# Altium footprint library varistor.PCBLIB: 34 footprints (part 2 of 3)
Each footprint in its own frame and in the unit in brackets; x right, y up, seen from the top. Pads: shape width x height; smd on the part's side, far side on the other; paste and mask are expansions set on the pad; w line width, h text height; cw(c..) or ccw(c..) is an arc to the next point about the centre after c.
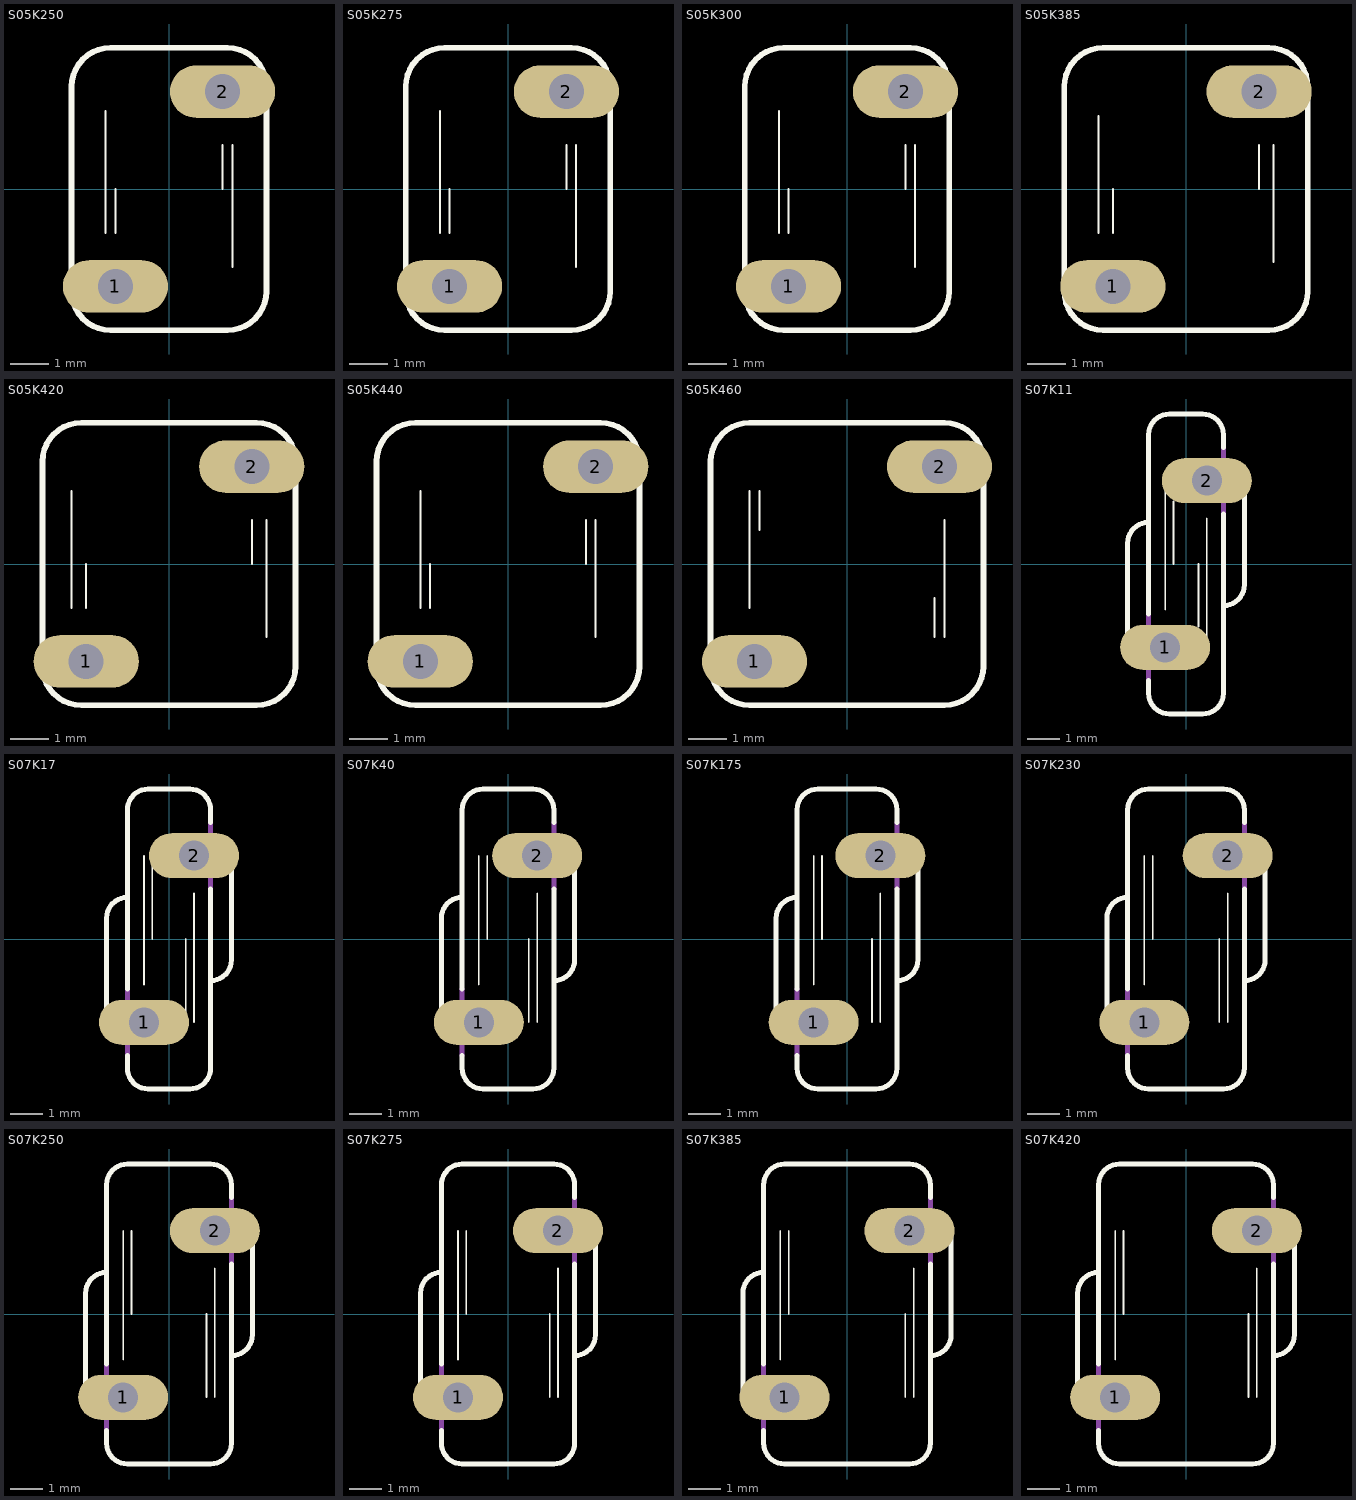
[diagram p1: the footprints below, top view; thin cyan lines are the x and y axes]

## S05K250 [mil]
pads (2):
  oval 108x54 hole 36: 1(-55,-100) 2(55,100)
Top Overlay:
  lines w2: -65,-45 -65,80 ; -55,-45 -55,0 ; 55,0 55,45 ; 65,-80 65,45
  lines w6: -100,-105 -100,105 cw(c-60,105) -60,145 60,145 cw(c60,105) 100,105 100,-105 cw(c60,-105) 60,-145 -60,-145 cw(c-60,-105) -100,-105

## S05K275 [mil]
pads (2):
  oval 108x54 hole 36: 1(-60,-100) 2(60,100)
Top Overlay:
  lines w2: -70,-45 -70,80 ; -60,-45 -60,0 ; 60,0 60,45 ; 70,-80 70,45
  lines w6: -105,-105 -105,105 cw(c-65,105) -65,145 65,145 cw(c65,105) 105,105 105,-105 cw(c65,-105) 65,-145 -65,-145 cw(c-65,-105) -105,-105

## S05K300 [mil]
pads (2):
  oval 108x54 hole 36: 1(-60,-100) 2(60,100)
Top Overlay:
  lines w2: -70,-45 -70,80 ; -60,-45 -60,0 ; 60,0 60,45 ; 70,-80 70,45
  lines w6: -105,-105 -105,105 cw(c-65,105) -65,145 65,145 cw(c65,105) 105,105 105,-105 cw(c65,-105) 65,-145 -65,-145 cw(c-65,-105) -105,-105

## S05K385 [mil]
pads (2):
  oval 108x54 hole 36: 1(-75,-100) 2(75,100)
Top Overlay:
  lines w2: -90,-45 -90,75 ; -75,-45 -75,0 ; 75,0 75,45 ; 90,-75 90,45
  lines w6: -125,-105 -125,105 cw(c-85,105) -85,145 85,145 cw(c85,105) 125,105 125,-105 cw(c85,-105) 85,-145 -85,-145 cw(c-85,-105) -125,-105

## S05K420 [mil]
pads (2):
  oval 108x54 hole 36: 1(-85,-100) 2(85,100)
Top Overlay:
  lines w2: -100,-45 -100,75 ; -85,-45 -85,0 ; 85,0 85,45 ; 100,-75 100,45
  lines w6: -130,-105 -130,105 cw(c-90,105) -90,145 90,145 cw(c90,105) 130,105 130,-105 cw(c90,-105) 90,-145 -90,-145 cw(c-90,-105) -130,-105

## S05K440 [mil]
pads (2):
  oval 108x54 hole 36: 1(-90,-100) 2(90,100)
Top Overlay:
  lines w2: -90,-45 -90,75 ; -80,-45 -80,0 ; 80,0 80,45 ; 90,-75 90,45
  lines w6: -135,-105 -135,105 cw(c-95,105) -95,145 95,145 cw(c95,105) 135,105 135,-105 cw(c95,-105) 95,-145 -95,-145 cw(c-95,-105) -135,-105

## S05K460 [mil]
pads (2):
  oval 108x54 hole 36: 1(-95,-100) 2(95,100)
Top Overlay:
  lines w2: -100,-45 -100,75 ; -90,35 -90,75 ; 90,-75 90,-35 ; 100,-75 100,45
  lines w6: -140,-105 -140,105 cw(c-100,105) -100,145 100,145 cw(c100,105) 140,105 140,-105 cw(c100,-105) 100,-145 -100,-145 cw(c-100,-105) -140,-105

## S07K11 [mil]
pads (2):
  oval 108x54 hole 36: 1(-25,-100) 2(25,100)
Top Overlay:
  lines w2: -25,-55 -25,100 ; -15,0 -15,75 ; 15,-75 15,0 ; 25,-100 25,55
  lines w6: -70,-95 -70,25 cw(c-45,25) -45,50 ; -45,-140 -45,-155 ccw(c-20,-155) -20,-180 20,-180 ccw(c20,-155) 45,-155 45,60 ; -45,-60 -45,155 cw(c-20,155) -20,180 20,180 cw(c20,155) 45,155 45,140 ; 45,-50 ccw(c45,-25) 70,-25 70,95
Mechanical 16:
  lines w6: -70,-95 ccw(c-45,-95) -45,-120 ; -45,-140 -45,-120 ; -45,-60 -45,-120 ; 45,60 45,120 ; 45,140 45,120 ; 70,95 ccw(c45,95) 45,120

## S07K17 [mil]
pads (2):
  oval 108x54 hole 36: 1(-30,-100) 2(30,100)
Top Overlay:
  lines w2: -30,-55 -30,100 ; -20,0 -20,100 ; 20,-100 20,0 ; 30,-100 30,55
  lines w6: -75,-95 -75,25 cw(c-50,25) -50,50 ; -50,-140 -50,-155 ccw(c-25,-155) -25,-180 25,-180 ccw(c25,-155) 50,-155 50,60 ; -50,-60 -50,155 cw(c-25,155) -25,180 25,180 cw(c25,155) 50,155 50,140 ; 50,-50 ccw(c50,-25) 75,-25 75,95
Mechanical 16:
  lines w6: -75,-95 ccw(c-50,-95) -50,-120 ; -50,-140 -50,-120 ; -50,-60 -50,-120 ; 50,60 50,120 ; 50,140 50,120 ; 75,95 ccw(c50,95) 50,120

## S07K40 [mil]
pads (2):
  oval 108x54 hole 36: 1(-35,-100) 2(35,100)
Top Overlay:
  lines w2: -35,-55 -35,100 ; -25,0 -25,100 ; 25,-100 25,0 ; 35,-100 35,55
  lines w6: -80,-95 -80,25 cw(c-55,25) -55,50 ; -55,-140 -55,-155 ccw(c-30,-155) -30,-180 30,-180 ccw(c30,-155) 55,-155 55,60 ; -55,-60 -55,155 cw(c-30,155) -30,180 30,180 cw(c30,155) 55,155 55,140 ; 55,-50 ccw(c55,-25) 80,-25 80,95
Mechanical 16:
  lines w6: -80,-95 ccw(c-55,-95) -55,-120 ; -55,-140 -55,-120 ; -55,-60 -55,-120 ; 55,60 55,120 ; 55,140 55,120 ; 80,95 ccw(c55,95) 55,120

## S07K175 [mil]
pads (2):
  oval 108x54 hole 36: 1(-40,-100) 2(40,100)
Top Overlay:
  lines w2: -40,-55 -40,100 ; -30,0 -30,100 ; 30,-100 30,0 ; 40,-100 40,55
  lines w6: -85,-95 -85,25 cw(c-60,25) -60,50 ; -60,-140 -60,-155 ccw(c-35,-155) -35,-180 35,-180 ccw(c35,-155) 60,-155 60,60 ; -60,-60 -60,155 cw(c-35,155) -35,180 35,180 cw(c35,155) 60,155 60,140 ; 60,-50 ccw(c60,-25) 85,-25 85,95
Mechanical 16:
  lines w6: -85,-95 ccw(c-60,-95) -60,-120 ; -60,-140 -60,-120 ; -60,-60 -60,-120 ; 60,60 60,120 ; 60,140 60,120 ; 85,95 ccw(c60,95) 60,120

## S07K230 [mil]
pads (2):
  oval 108x54 hole 36: 1(-50,-100) 2(50,100)
Top Overlay:
  lines w2: -50,-55 -50,100 ; -40,0 -40,100 ; 40,-100 40,0 ; 50,-100 50,55
  lines w6: -95,-95 -95,25 cw(c-70,25) -70,50 ; -70,-140 -70,-155 ccw(c-45,-155) -45,-180 45,-180 ccw(c45,-155) 70,-155 70,60 ; -70,-60 -70,155 cw(c-45,155) -45,180 45,180 cw(c45,155) 70,155 70,140 ; 70,-50 ccw(c70,-25) 95,-25 95,95
Mechanical 16:
  lines w6: -95,-95 ccw(c-70,-95) -70,-120 ; -70,-140 -70,-120 ; -70,-60 -70,-120 ; 70,60 70,120 ; 70,140 70,120 ; 95,95 ccw(c70,95) 70,120

## S07K250 [mil]
pads (2):
  oval 108x54 hole 36: 1(-55,-100) 2(55,100)
Top Overlay:
  lines w2: -55,-55 -55,100 ; -45,0 -45,100 ; 45,-100 45,0 ; 55,-100 55,55
  lines w6: -100,-95 -100,25 cw(c-75,25) -75,50 ; -75,-140 -75,-155 ccw(c-50,-155) -50,-180 50,-180 ccw(c50,-155) 75,-155 75,60 ; -75,-60 -75,155 cw(c-50,155) -50,180 50,180 cw(c50,155) 75,155 75,140 ; 75,-50 ccw(c75,-25) 100,-25 100,95
Mechanical 16:
  lines w6: -100,-95 ccw(c-75,-95) -75,-120 ; -75,-140 -75,-120 ; -75,-60 -75,-120 ; 75,60 75,120 ; 75,140 75,120 ; 100,95 ccw(c75,95) 75,120

## S07K275 [mil]
pads (2):
  oval 108x54 hole 36: 1(-60,-100) 2(60,100)
Top Overlay:
  lines w2: -60,-55 -60,100 ; -50,0 -50,100 ; 50,-100 50,0 ; 60,-100 60,55
  lines w6: -105,-95 -105,25 cw(c-80,25) -80,50 ; -80,-140 -80,-155 ccw(c-55,-155) -55,-180 55,-180 ccw(c55,-155) 80,-155 80,60 ; -80,-60 -80,155 cw(c-55,155) -55,180 55,180 cw(c55,155) 80,155 80,140 ; 80,-50 ccw(c80,-25) 105,-25 105,95
Mechanical 16:
  lines w6: -105,-95 ccw(c-80,-95) -80,-120 ; -80,-140 -80,-120 ; -80,-60 -80,-120 ; 80,60 80,120 ; 80,140 80,120 ; 105,95 ccw(c80,95) 80,120

## S07K385 [mil]
pads (2):
  oval 108x54 hole 36: 1(-75,-100) 2(75,100)
Top Overlay:
  lines w2: -80,-55 -80,100 ; -70,0 -70,100 ; 70,-100 70,0 ; 80,-100 80,55
  lines w6: -125,-95 -125,25 cw(c-100,25) -100,50 ; -100,-140 -100,-155 ccw(c-75,-155) -75,-180 75,-180 ccw(c75,-155) 100,-155 100,60 ; -100,-60 -100,155 cw(c-75,155) -75,180 75,180 cw(c75,155) 100,155 100,140 ; 100,-50 ccw(c100,-25) 125,-25 125,95
Mechanical 16:
  lines w6: -125,-95 ccw(c-100,-95) -100,-120 ; -100,-140 -100,-120 ; -100,-60 -100,-120 ; 100,60 100,120 ; 100,140 100,120 ; 125,95 ccw(c100,95) 100,120

## S07K420 [mil]
pads (2):
  oval 108x54 hole 36: 1(-85,-100) 2(85,100)
Top Overlay:
  lines w2: -85,-55 -85,100 ; -75,0 -75,100 ; 75,-100 75,0 ; 85,-100 85,55
  lines w6: -130,-95 -130,25 cw(c-105,25) -105,50 ; -105,-140 -105,-155 ccw(c-80,-155) -80,-180 80,-180 ccw(c80,-155) 105,-155 105,60 ; -105,-60 -105,155 cw(c-80,155) -80,180 80,180 cw(c80,155) 105,155 105,140 ; 105,-50 ccw(c105,-25) 130,-25 130,95
Mechanical 16:
  lines w6: -130,-95 ccw(c-105,-95) -105,-120 ; -105,-140 -105,-120 ; -105,-60 -105,-120 ; 105,60 105,120 ; 105,140 105,120 ; 130,95 ccw(c105,95) 105,120